# EAGLE library part MAX485 (library .custom-active)
RS485 Serial Converter
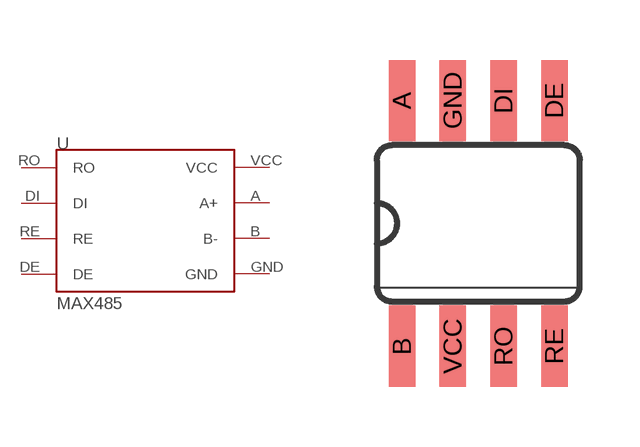
[diagram p2: symbol with the pads of SOP-8; footprint SOP-8]

Designator prefix U

## MAX485  [SOP-8]
A  A+
B  B-
DE  DE
DI  DI
GND  GND
RE  RE
RO  RO
VCC  VCC

## Footprint SOP-8 (pad centres in mm)
Small Outline package 8 150 mil
smd 0.66 x 2.032: A -1.905,3.073; B -1.905,-3.073; DE 1.905,3.073; DI 0.635,3.073; GND -0.635,3.073; RE 1.905,-3.073; RO 0.635,-3.073; VCC -0.635,-3.073